# Altium schematic symbol library Resistors.SchLib: 6 symbols
Pins are listed as number, name and electrical type; pins without a type are passive.

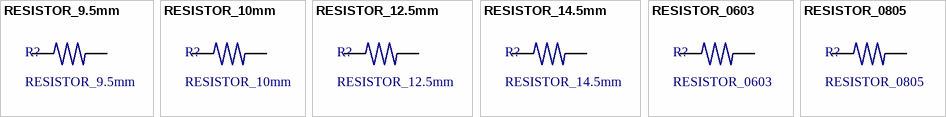
[diagram p0: symbols RESISTOR_9.5mm to RESISTOR_0805]

## RESISTOR_9.5mm
designator R?
Generic Resistor 9.5mm.
footprint RESISTOR_PTH_9.5mm
pins: 1, 2

## RESISTOR_10mm
designator R?
Generic Resistor 10mm.
footprint RESISTOR_PTH_10mm
pins: 1, 2

## RESISTOR_12.5mm
designator R?
Generic Resistor 12.5mm.
footprint RESSITOR_PTH_12.5mm
pins: 1, 2

## RESISTOR_14.5mm
designator R?
Generic Resistor 14.5mm.
footprint RESSITOR_PTH_14.5mm
pins: 1, 2

## RESISTOR_0603
designator R?
Generic Resistor 0603.
footprint RESISTOR_0603
pins: 1, 2

## RESISTOR_0805
designator R?
Generic Resistor 0805.
footprint RESISTOR_0805
pins: 1, 2